# Altium footprint library PcbLib2.PcbLib: 16 footprints
Each footprint in its own frame and in the unit in brackets; x right, y up, seen from the top. Pads: shape width x height; smd on the part's side, far side on the other; paste and mask are expansions set on the pad; w line width, h text height; cw(c..) or ccw(c..) is an arc to the next point about the centre after c.
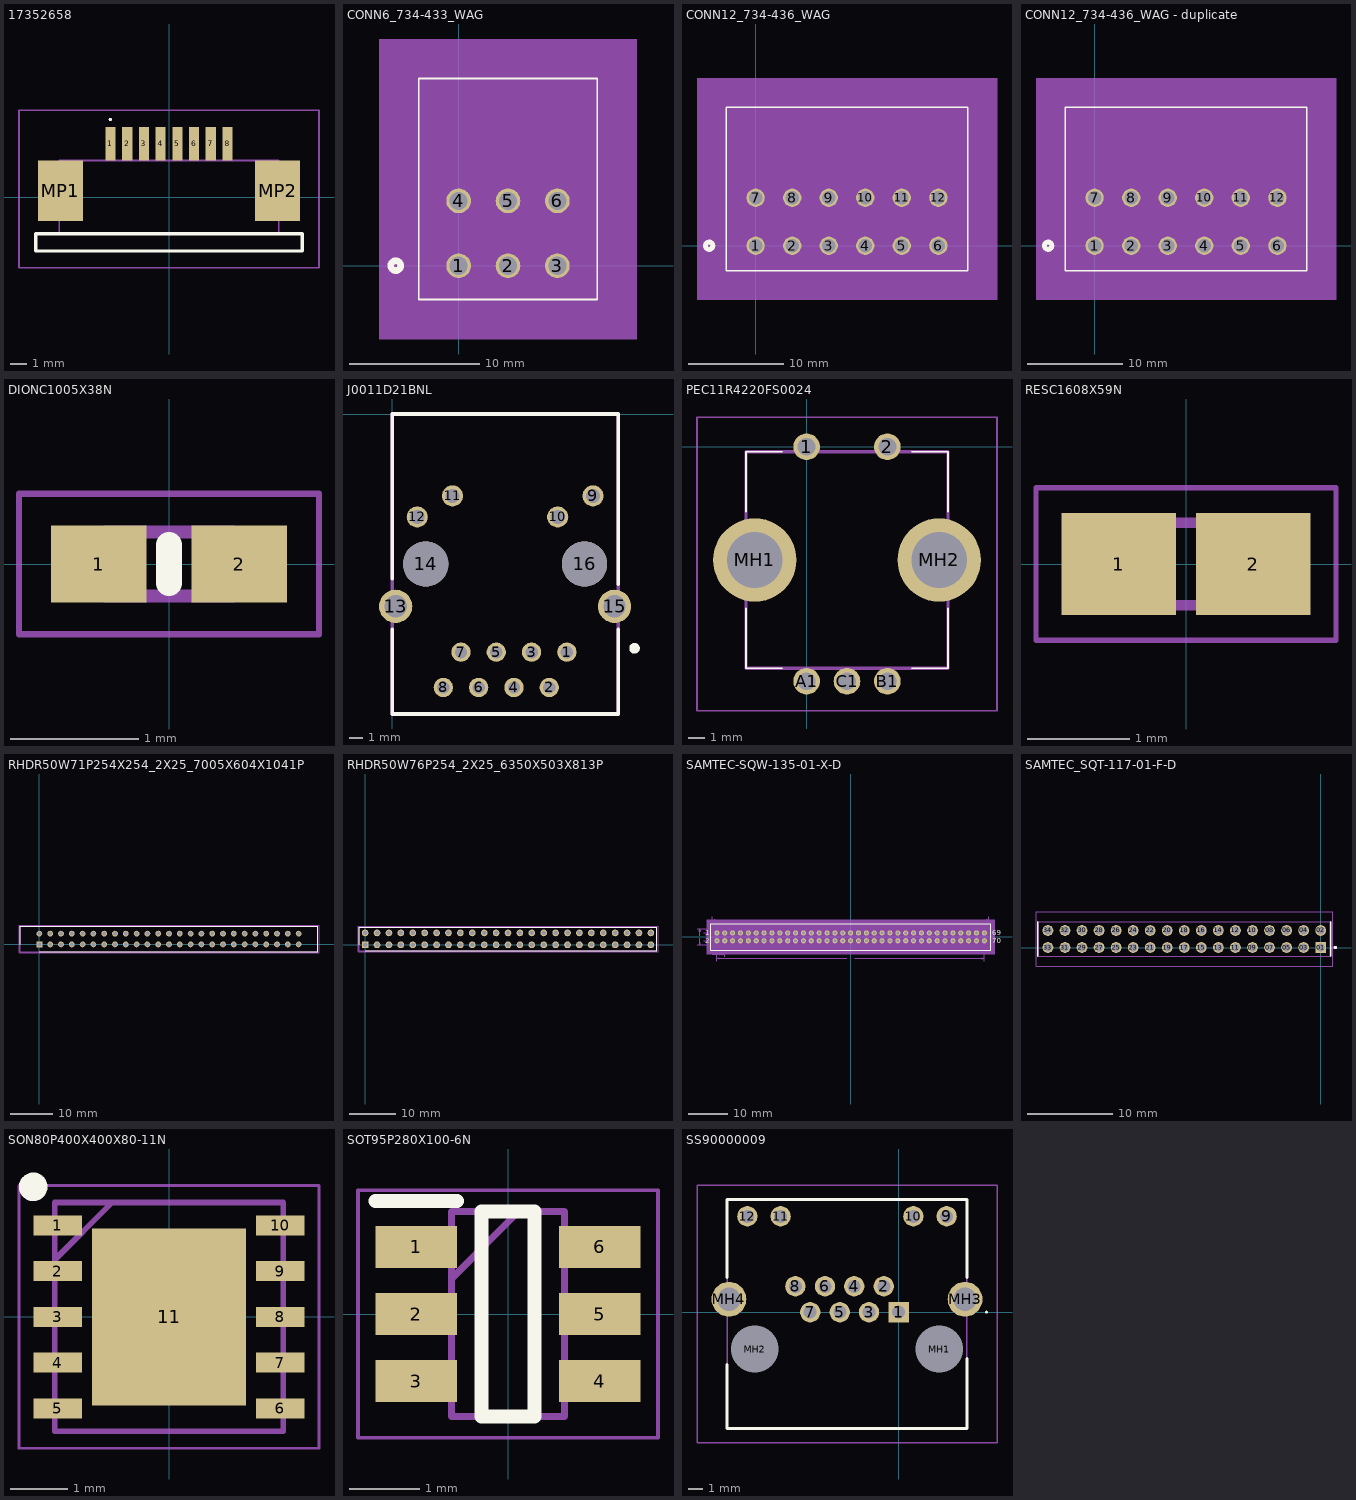
[diagram p0: the footprints below, top view; thin cyan lines are the x and y axes]

## 17352658 [mm]
pads (10):
  rect 0.61x2 smd: 1(-3.5,3.2) 2(-2.5,3.2) 3(-1.5,3.2) 4(-0.5,3.2) 5(0.5,3.2) 6(1.5,3.2) 7(2.5,3.2) 8(3.5,3.2)
  rect 2.68x3.6 smd: MP1(-6.49,0.4) MP2(6.49,0.4)
Top Overlay:
  lines w0.1: -3.5,4.6 cw(c-3.5,4.65) -3.5,4.7 cw(c-3.5,4.65) -3.5,4.6
  lines w0.2: -7.96,-3.2 7.96,-3.2 7.96,-2.17 6.56,-2.17 -6.56,-2.17 -7.96,-2.17 -7.96,-3.2
Mechanical 15:
  lines w0.1: 6.49,-2.17 7.96,-2.17 7.96,-3.2 -7.96,-3.2 -7.96,-2.17 -6.56,-2.17 ; -6.56,-2.17 -6.56,2.2 6.56,2.2 6.56,-2.17 -6.56,-2.17
Mechanical 20:
  lines w0.1: -8.96,-4.2 -8.96,5.2 8.96,5.2 8.96,-4.2 -8.96,-4.2
3D body "1735265-8.stp": height 2.59, standoff 0.03, extent -7.965,-3.23 7.965,3.31

## CONN6_734-433_WAG [mil]
pads (6):
  round 75 hole 55 mask+0: 1(0,0) 2(150,0) 3(300,0) 4(0,196.85) 5(150,196.85) 6(300,196.85)
Top Overlay:
  circle w20: c-191,0 r15
  lines w6: -121,-102.57 421,-102.57 421,568.43 -121,568.43 -121,-102.57
Bottom Overlay:
  circle w20: c-191,0 r15
Mechanical 5:
  region: -241,688.43 541,688.43 541,-222.57 -241,-222.57
Mechanical 13:
  circle w20: c0,-75 r15
  lines w1: -116,-97.57 416,-97.57 416,563.43 -116,563.43 -116,-97.57
Mechanical 15:
  region: 426,573.43 -126,573.43 -126,-107.57 426,-107.57
  lines w6: -126,-107.57 -126,573.43 426,573.43 426,-107.57 -126,-107.57
3D body: height 10, standoff 0, extent 0,0 10,10
3D body "734-433.stp": height 905.51, standoff -141.73, extent -117.28,-95.71 415,565.71

## CONN12_734-436_WAG [mil]
pads (12):
  round 75 hole 55 mask+0: 1(0,0) 2(150,0) 3(300,0) 4(450,0) 5(600,0) 6(750,0) 7(0,196.85) 8(150,196.85) 9(300,196.85) 10(450,196.85) 11(600,196.85) 12(750,196.85)
Top Overlay:
  circle w20: c-191,0 r15
  lines w6: -121,-102.57 871,-102.57 871,568.43 -121,568.43 -121,-102.57
Bottom Overlay:
  circle w20: c-191,0 r15
Mechanical 5:
  region: -241,688.43 991,688.43 991,-222.57 -241,-222.57
Mechanical 13:
  circle w20: c0,-75 r15
  lines w1: -116,-97.57 866,-97.57 866,563.43 -116,563.43 -116,-97.57
Mechanical 15:
  region: 876,573.43 -126,573.43 -126,-107.57 876,-107.57
  lines w6: -126,-107.57 -126,573.43 876,573.43 876,-107.57 -126,-107.57
3D body: height 10, standoff 0, extent 0,0 10,10
3D body "734-436.stp": height 905.51, standoff -141.73, extent -117.13,-98.43 865.16,562.99

## CONN12_734-436_WAG - duplicate [mil]
pads (12):
  round 75 hole 55 mask+0: 1(0,0) 2(150,0) 3(300,0) 4(450,0) 5(600,0) 6(750,0) 7(0,196.85) 8(150,196.85) 9(300,196.85) 10(450,196.85) 11(600,196.85) 12(750,196.85)
Top Overlay:
  circle w20: c-191,0 r15
  lines w6: -121,-102.57 871,-102.57 871,568.43 -121,568.43 -121,-102.57
Bottom Overlay:
  circle w20: c-191,0 r15
Mechanical 5:
  region: -241,688.43 991,688.43 991,-222.57 -241,-222.57
Mechanical 13:
  circle w20: c0,-75 r15
  lines w1: -116,-97.57 866,-97.57 866,563.43 -116,563.43 -116,-97.57
Mechanical 15:
  region: 876,573.43 -126,573.43 -126,-107.57 876,-107.57
  lines w6: -126,-107.57 -126,573.43 876,573.43 876,-107.57 -126,-107.57
3D body: height 10, standoff 0, extent 0,0 10,10

## DIONC1005X38N [mm]
pads (2):
  rect 0.75x0.6 smd: 1(-0.55,0) 2(0.55,0)
Top Overlay:
  lines w0.2: 0,-0.15 0,0.15
Mechanical 15:
  lines w0.1: -0.5,-0.25 -0.5,0.25 0.5,0.25 0.5,-0.25 -0.5,-0.25
Mechanical 20:
  lines w0.05: -1.175,-0.55 -1.175,0.55 1.175,0.55 1.175,-0.55 -1.175,-0.55
3D body "PGB2010402KRHF.stp": height 0.38, standoff 0, extent -0.5,-0.25 0.5,0.25

## J0011D21BNL [mm]
pads (16):
  round 1.39 hole 0.89: 1(12.575,-17.14) 2(11.305,-19.68) 3(10.035,-17.14) 4(8.765,-19.68) 5(7.495,-17.14) 6(6.225,-19.68) 7(4.955,-17.14) 8(3.685,-19.68)
  round 1.52 hole 1.02: 9(14.455,-5.89) 10(11.915,-7.41) 11(4.345,-5.89) 12(1.805,-7.41)
  round 2.4 hole 1.6: 13(0.255,-13.84) 15(16.005,-13.84)
  round 3.25 hole 3.25 unplated: 14(2.415,-10.79) 16(13.845,-10.79)
Top Overlay:
  circle w0.4: c17.443,-16.865 r0.178
  lines w0.254: 0,-15.504 0,-21.59 16.26,-21.59 16.26,-15.504 ; 0,-11.839 0,0 16.26,0 16.26,-12.258
Mechanical 15:
  lines w0.254: 0,-21.59 0,0 16.26,0 16.26,-21.59 0,-21.59
3D body "J0011D01BNL.stp": height 13.74, standoff -3.61, extent -0.128,-21.7 16.328,-0.11

## PCBComponent_1 [mm]

## PEC11R4220FS0024 [mm]
pads (7):
  round 1.65 hole 1.1: 1(0,0) 2(5,0) A1(0,-14.5) B1(5,-14.5) C1(2.5,-14.5)
  round 5.161 hole 3.441: MH1(-3.2,-7) MH2(8.2,-7)
Top Overlay:
  lines w0.1: -3.75,-10 -3.75,-13.7 -1.5,-13.7 ; -3.75,-4 -3.75,-0.3 -1.5,-0.3 ; 6.5,-13.7 8.75,-13.7 8.75,-10 ; 6.5,-0.3 8.75,-0.3 8.75,-4
Mechanical 15:
  lines w0.2: -3.75,-13.7 -3.75,-0.3 8.75,-0.3 8.75,-13.7 -3.75,-13.7
Mechanical 20:
  lines w0.1: -6.781,-16.325 -6.781,1.825 11.781,1.825 11.781,-16.325 -6.781,-16.325
3D body "PEC11R-4220F-S0024.stp": height 26.74, standoff -3.46, extent -4.585,-14.558 9.411,0.342

## RESC1608X59N [mm]
pads (2):
  rect 1.125x1 smd: 1(-0.662,0) 2(0.662,0)
Mechanical 15:
  lines w0.1: -0.8,-0.405 -0.8,0.405 0.8,0.405 0.8,-0.405 -0.8,-0.405
Mechanical 20:
  lines w0.05: -1.475,-0.75 -1.475,0.75 1.475,0.75 1.475,-0.75 -1.475,-0.75
3D body "RCP0603W25R0GEB.stp": height 0.59, standoff 0, extent -0.8,-0.405 0.8,0.405

## RHDR50W71P254X254_2X25_7005X604X1041P [mm]
pads (50):
  rect 1.35x1.35 / inner round 1.35 / far side rect 1.35x1.35 hole 0.9: 1(0,0)
  round 1.35 hole 0.9: 2(0,2.54) 3(2.54,0) 4(2.54,2.54) 5(5.08,0) 6(5.08,2.54) 7(7.62,0) 8(7.62,2.54) 9(10.16,0) 10(10.16,2.54) 11(12.7,0) 12(12.7,2.54) 13(15.24,0) 14(15.24,2.54) 15(17.78,0) 16(17.78,2.54) 17(20.32,0) 18(20.32,2.54) 19(22.86,0) 20(22.86,2.54) 21(25.4,0) 22(25.4,2.54) 23(27.94,0) 24(27.94,2.54) 25(30.48,0) 26(30.48,2.54) 27(33.02,0) 28(33.02,2.54) 29(35.56,0) 30(35.56,2.54) 31(38.1,0) 32(38.1,2.54) 33(40.64,0) 34(40.64,2.54) 35(43.18,0) 36(43.18,2.54) 37(45.72,0) 38(45.72,2.54) 39(48.26,0) 40(48.26,2.54) 41(50.8,0) 42(50.8,2.54) 43(53.34,0) 44(53.34,2.54) 45(55.88,0) 46(55.88,2.54) 47(58.42,0) 48(58.42,2.54) 49(60.96,0) 50(60.96,2.54)
Top Overlay:
  lines w0.2: -4.546,0 -4.546,4.293 65.504,4.293 65.504,-1.752 0,-1.752
Mechanical 15:
  lines w0.1: -4.546,-1.752 65.504,-1.752 65.504,4.293 -4.546,4.293 -4.546,-1.752
Mechanical 20:
  lines w0.05: -4.796,-2.002 65.754,-2.002 65.754,4.543 -4.796,4.543 -4.796,-2.002
3D body "5-534972-3.stp": height 8.13, standoff -5.21, extent -4.572,-1.753 65.481,4.293

## RHDR50W76P254_2X25_6350X503X813P [mm]
pads (50):
  rect 1.425x1.425 / inner round 1.425 / far side rect 1.425x1.425 hole 0.95: 1(0,0)
  round 1.425 hole 0.95: 2(0,2.54) 3(2.54,0) 4(2.54,2.54) 5(5.08,0) 6(5.08,2.54) 7(7.62,0) 8(7.62,2.54) 9(10.16,0) 10(10.16,2.54) 11(12.7,0) 12(12.7,2.54) 13(15.24,0) 14(15.24,2.54) 15(17.78,0) 16(17.78,2.54) 17(20.32,0) 18(20.32,2.54) 19(22.86,0) 20(22.86,2.54) 21(25.4,0) 22(25.4,2.54) 23(27.94,0) 24(27.94,2.54) 25(30.48,0) 26(30.48,2.54) 27(33.02,0) 28(33.02,2.54) 29(35.56,0) 30(35.56,2.54) 31(38.1,0) 32(38.1,2.54) 33(40.64,0) 34(40.64,2.54) 35(43.18,0) 36(43.18,2.54) 37(45.72,0) 38(45.72,2.54) 39(48.26,0) 40(48.26,2.54) 41(50.8,0) 42(50.8,2.54) 43(53.34,0) 44(53.34,2.54) 45(55.88,0) 46(55.88,2.54) 47(58.42,0) 48(58.42,2.54) 49(60.96,0) 50(60.96,2.54)
Top Overlay:
  lines w0.2: -1.27,0 -1.27,3.76 62.23,3.76 62.23,-1.27 0,-1.27
Mechanical 15:
  lines w0.1: -1.27,-1.27 -1.27,3.76 62.23,3.76 62.23,-1.27 -1.27,-1.27
Mechanical 20:
  lines w0.05: -1.52,-1.52 -1.52,4.01 62.48,4.01 62.48,-1.52 -1.52,-1.52
3D body "7-534206-5.stp": height 8.79, standoff -2.77, extent -1.27,-1.245 62.23,3.785

## SAMTEC-SQW-135-01-X-D [mm]
pads (70):
  round 1.31 hole 0.71 mask+0: 1(-34,1) 2(-34,-1) 3(-32,1) 4(-32,-1) 5(-30,1) 6(-30,-1) 7(-28,1) 8(-28,-1) 9(-26,1) 10(-26,-1) 11(-24,1) 12(-24,-1) 13(-22,1) 14(-22,-1) 15(-20,1) 16(-20,-1) 17(-18,1) 18(-18,-1) 19(-16,1) 20(-16,-1) 21(-14,1) 22(-14,-1) 23(-12,1) 24(-12,-1) 25(-10,1) 26(-10,-1) 27(-8,1) 28(-8,-1) 29(-6,1) 30(-6,-1) 31(-4,1) 32(-4,-1) 33(-2,1) 34(-2,-1) 35(0,1) 36(0,-1) 37(2,1) 38(2,-1) 39(4,1) 40(4,-1) 41(6,1) 42(6,-1) 43(8,1) 44(8,-1) 45(10,1) 46(10,-1) 47(12,1) 48(12,-1) 49(14,1) 50(14,-1) 51(16,1) 52(16,-1) 53(18,1) 54(18,-1) 55(20,1) 56(20,-1) 57(22,1) 58(22,-1) 59(24,1) 60(24,-1) 61(26,1) 62(26,-1) 63(28,1) 64(28,-1) 65(30,1) 66(30,-1) 67(32,1) 68(32,-1) 69(34,1) 70(34,-1)
Top Overlay:
  lines w0.2: -35.599,-3.37 35.599,-3.37 35.599,3.37 -35.599,3.37 -35.599,-3.37
  text "70" at 35.939,-1.635 h1.27
  text "69" at 35.939,0.365 h1.27
  text "2" at -36.969,-1.635 h1.27
  text "1" at -36.969,0.365 h1.27
Top Paste:
  drawing of 70 lines, arcs and shapes, not listed
Top Solder:
  circle w0: c34,-1 r0.706
  circle w0: c34,1 r0.706
  circle w0: c32,-1 r0.706
  circle w0: c32,1 r0.706
  circle w0: c30,-1 r0.706
  circle w0: c30,1 r0.706
  circle w0: c28,-1 r0.706
  circle w0: c28,1 r0.706
  circle w0: c26,-1 r0.706
  circle w0: c26,1 r0.706
  circle w0: c24,-1 r0.706
  circle w0: c24,1 r0.706
  circle w0: c22,-1 r0.706
  circle w0: c22,1 r0.706
  circle w0: c20,-1 r0.706
  circle w0: c20,1 r0.706
  circle w0: c18,-1 r0.706
  circle w0: c18,1 r0.706
  circle w0: c16,-1 r0.706
  circle w0: c16,1 r0.706
  circle w0: c14,-1 r0.706
  circle w0: c14,1 r0.706
  circle w0: c12,-1 r0.706
  circle w0: c12,1 r0.706
  circle w0: c10,-1 r0.706
  circle w0: c10,1 r0.706
  circle w0: c8,-1 r0.706
  circle w0: c8,1 r0.706
  circle w0: c6,-1 r0.706
  circle w0: c6,1 r0.706
  circle w0: c4,-1 r0.706
  circle w0: c4,1 r0.706
  circle w0: c2,-1 r0.706
  circle w0: c2,1 r0.706
  circle w0: c0,-1 r0.706
  circle w0: c0,1 r0.706
  circle w0: c-2,-1 r0.706
  circle w0: c-2,1 r0.706
  circle w0: c-4,-1 r0.706
  circle w0: c-4,1 r0.706
  circle w0: c-6,-1 r0.706
  circle w0: c-6,1 r0.706
  circle w0: c-8,-1 r0.706
  circle w0: c-8,1 r0.706
  circle w0: c-10,-1 r0.706
  circle w0: c-10,1 r0.706
  circle w0: c-12,-1 r0.706
  circle w0: c-12,1 r0.706
  circle w0: c-14,-1 r0.706
  circle w0: c-14,1 r0.706
  circle w0: c-16,-1 r0.706
  circle w0: c-16,1 r0.706
  circle w0: c-18,-1 r0.706
  circle w0: c-18,1 r0.706
  circle w0: c-20,-1 r0.706
  circle w0: c-20,1 r0.706
  circle w0: c-22,-1 r0.706
  circle w0: c-22,1 r0.706
  circle w0: c-24,-1 r0.706
  circle w0: c-24,1 r0.706
  circle w0: c-26,-1 r0.706
  circle w0: c-26,1 r0.706
  circle w0: c-28,-1 r0.706
  circle w0: c-28,1 r0.706
  circle w0: c-30,-1 r0.706
  circle w0: c-30,1 r0.706
  circle w0: c-32,-1 r0.706
  circle w0: c-32,1 r0.706
  circle w0: c-34,-1 r0.706
  circle w0: c-34,1 r0.706
Bottom Solder:
  circle w0: c34,-1 r0.706
  circle w0: c34,1 r0.706
  circle w0: c32,-1 r0.706
  circle w0: c32,1 r0.706
  circle w0: c30,-1 r0.706
  circle w0: c30,1 r0.706
  circle w0: c28,-1 r0.706
  circle w0: c28,1 r0.706
  circle w0: c26,-1 r0.706
  circle w0: c26,1 r0.706
  circle w0: c24,-1 r0.706
  circle w0: c24,1 r0.706
  circle w0: c22,-1 r0.706
  circle w0: c22,1 r0.706
  circle w0: c20,-1 r0.706
  circle w0: c20,1 r0.706
  circle w0: c18,-1 r0.706
  circle w0: c18,1 r0.706
  circle w0: c16,-1 r0.706
  circle w0: c16,1 r0.706
  circle w0: c14,-1 r0.706
  circle w0: c14,1 r0.706
  circle w0: c12,-1 r0.706
  circle w0: c12,1 r0.706
  circle w0: c10,-1 r0.706
  circle w0: c10,1 r0.706
  circle w0: c8,-1 r0.706
  circle w0: c8,1 r0.706
  circle w0: c6,-1 r0.706
  circle w0: c6,1 r0.706
  circle w0: c4,-1 r0.706
  circle w0: c4,1 r0.706
  circle w0: c2,-1 r0.706
  circle w0: c2,1 r0.706
  circle w0: c0,-1 r0.706
  circle w0: c0,1 r0.706
  circle w0: c-2,-1 r0.706
  circle w0: c-2,1 r0.706
  circle w0: c-4,-1 r0.706
  circle w0: c-4,1 r0.706
  circle w0: c-6,-1 r0.706
  circle w0: c-6,1 r0.706
  circle w0: c-8,-1 r0.706
  circle w0: c-8,1 r0.706
  circle w0: c-10,-1 r0.706
  circle w0: c-10,1 r0.706
  circle w0: c-12,-1 r0.706
  circle w0: c-12,1 r0.706
  circle w0: c-14,-1 r0.706
  circle w0: c-14,1 r0.706
  circle w0: c-16,-1 r0.706
  circle w0: c-16,1 r0.706
  circle w0: c-18,-1 r0.706
  circle w0: c-18,1 r0.706
  circle w0: c-20,-1 r0.706
  circle w0: c-20,1 r0.706
  circle w0: c-22,-1 r0.706
  circle w0: c-22,1 r0.706
  circle w0: c-24,-1 r0.706
  circle w0: c-24,1 r0.706
  circle w0: c-26,-1 r0.706
  circle w0: c-26,1 r0.706
  circle w0: c-28,-1 r0.706
  circle w0: c-28,1 r0.706
  circle w0: c-30,-1 r0.706
  circle w0: c-30,1 r0.706
  circle w0: c-32,-1 r0.706
  circle w0: c-32,1 r0.706
  circle w0: c-34,-1 r0.706
  circle w0: c-34,1 r0.706
Mechanical 13:
  drawing of 466 lines, arcs and shapes, not listed
  text "70" at 35.939,-1.635 h1.27
  text "69" at 35.939,0.365 h1.27
  text "70.305" at -0.8,4.242 h0.25
  text "68.000" at -0.8,-5.588 h0.25
  text "4.000" at -39.012,-0.127 h0.25
  text "2.000" at -37.236,-0.127 h0.25
  text "2" at -36.969,-1.635 h1.27
  text "1" at -36.969,0.365 h1.27
  text "2.000" at -36.665,-4.508 h0.25
Mechanical 15:
  region: 36.596,-4.367 -36.596,-4.367 -36.596,4.367 36.596,4.367
3D body "SQW-135-01-F-D.stp": height 6.35, standoff -2.29, extent -35.149,-2 35.149,2

## SAMTEC_SQT-117-01-F-D [mm]
pads (34):
  rect 1.26x1.26 hole 0.91: 01(0,0)
  round 1.26 hole 0.91: 02(0,2) 03(-2,0) 04(-2,2) 05(-4,0) 06(-4,2) 07(-6,0) 08(-6,2) 09(-8,0) 10(-8,2) 11(-10,0) 12(-10,2) 13(-12,0) 14(-12,2) 15(-14,0) 16(-14,2) 17(-16,0) 18(-16,2) 19(-18,0) 20(-18,2) 21(-20,0) 22(-20,2) 23(-22,0) 24(-22,2) 25(-24,0) 26(-24,2) 27(-26,0) 28(-26,2) 29(-28,0) 30(-28,2) 31(-30,0) 32(-30,2) 33(-32,0) 34(-32,2)
Top Overlay:
  circle w0.2: c1.7,0 r0.1
  lines w0.2: -33.2,-1 -33.2,3 ; 1.2,-1 1.2,3
Top Paste:
  drawing of 34 lines, arcs and shapes, not listed
Mechanical 13:
  circle w0.2: c1.7,0 r0.1
  lines w0.1: -33.15,-1 1.15,-1 1.15,3 -33.15,3 -33.15,-1
Mechanical 15:
  lines w0.05: -33.4,-2.22 1.4,-2.22 1.4,4.22 -33.4,4.22 -33.4,-2.22
3D body "SQT-117-01-F-D.stp": height 6.35, standoff -2.29, extent -33.149,-1 1.149,3

## SON80P400X400X80-11N [mm]
pads (11):
  rect 0.85x0.35 smd: 1(-1.95,1.6) 2(-1.95,0.8) 3(-1.95,0) 4(-1.95,-0.8) 5(-1.95,-1.6) 6(1.95,-1.6) 7(1.95,-0.8) 8(1.95,0) 9(1.95,0.8) 10(1.95,1.6)
  rect 2.7x3.1 smd: 11(0,0)
Top Overlay:
  circle w0.25: c-2.375,2.275 r0.125
Mechanical 15:
  lines w0.1: -2,1 -1,2 ; -2,-2 -2,2 2,2 2,-2 -2,-2
Mechanical 20:
  lines w0.05: -2.625,-2.3 -2.625,2.3 2.625,2.3 2.625,-2.3 -2.625,-2.3
3D body "LMR14050QDPRRQ1.stp": height 0.8, standoff 0, extent -2,-2 2,2

## SOT95P280X100-6N [mm]
pads (6):
  rect 1.15x0.6 smd: 1(-1.3,0.95) 2(-1.3,0) 3(-1.3,-0.95) 4(1.3,-0.95) 5(1.3,0) 6(1.3,0.95)
Top Overlay:
  lines w0.2: -1.875,1.6 -0.725,1.6 ; -0.375,-1.45 0.375,-1.45 0.375,1.45 -0.375,1.45 -0.375,-1.45
Mechanical 15:
  lines w0.1: -0.8,0.5 0.15,1.45 ; -0.8,-1.45 0.8,-1.45 0.8,1.45 -0.8,1.45 -0.8,-1.45
Mechanical 20:
  lines w0.05: -2.125,-1.75 2.125,-1.75 2.125,1.75 -2.125,1.75 -2.125,-1.75
3D body "MP3202DJ-LF-P.stp": height 1, standoff 0, extent -1.4,-1.45 1.4,1.45

## SS90000009 [mm]
pads (16):
  rect 1.4x1.4 hole 0.9: 1(0,0)
  round 1.4 hole 0.9: 2(-1.02,1.78) 3(-2.04,0) 4(-3.06,1.78) 5(-4.05,0) 6(-5.07,1.78) 7(-6.09,0) 8(-7.11,1.78) 9(3.305,6.6) 10(1.015,6.6) 11(-8.125,6.6) 12(-10.415,6.6)
  round 1.625 hole 3.25 unplated: MH1(2.795,-2.54) MH2(-9.905,-2.54)
  round 2.4 hole 1.6: MH3(4.57,0.89) MH4(-11.68,0.89)
Top Overlay:
  lines w0.1: 6,0 cw(c6.05,0) 6.1,0 cw(c6.05,0) 6,0
  lines w0.2: -11.805,-3.6 -11.805,-8 4.695,-8 4.695,-3.2 ; -11.805,2.4 -11.805,7.75 4.695,7.75 4.695,2.4
Mechanical 15:
  lines w0.1: -11.805,-8 -11.805,7.75 4.695,7.75 4.695,-8 -11.805,-8
Mechanical 20:
  lines w0.1: -13.88,-9 -13.88,8.75 6.77,8.75 6.77,-9 -13.88,-9
3D body "SS-90000-009.stp": height 13.48, standoff -5, extent -12.325,-8.05 5.325,7.7